# Altium footprint library rcl.PCBLIB: 487 footprints (part 24 of 31)
Each footprint in its own frame and in the unit in brackets; x right, y up, seen from the top. Pads: shape width x height; smd on the part's side, far side on the other; paste and mask are expansions set on the pad; w line width, h text height; cw(c..) or ccw(c..) is an arc to the next point about the centre after c.
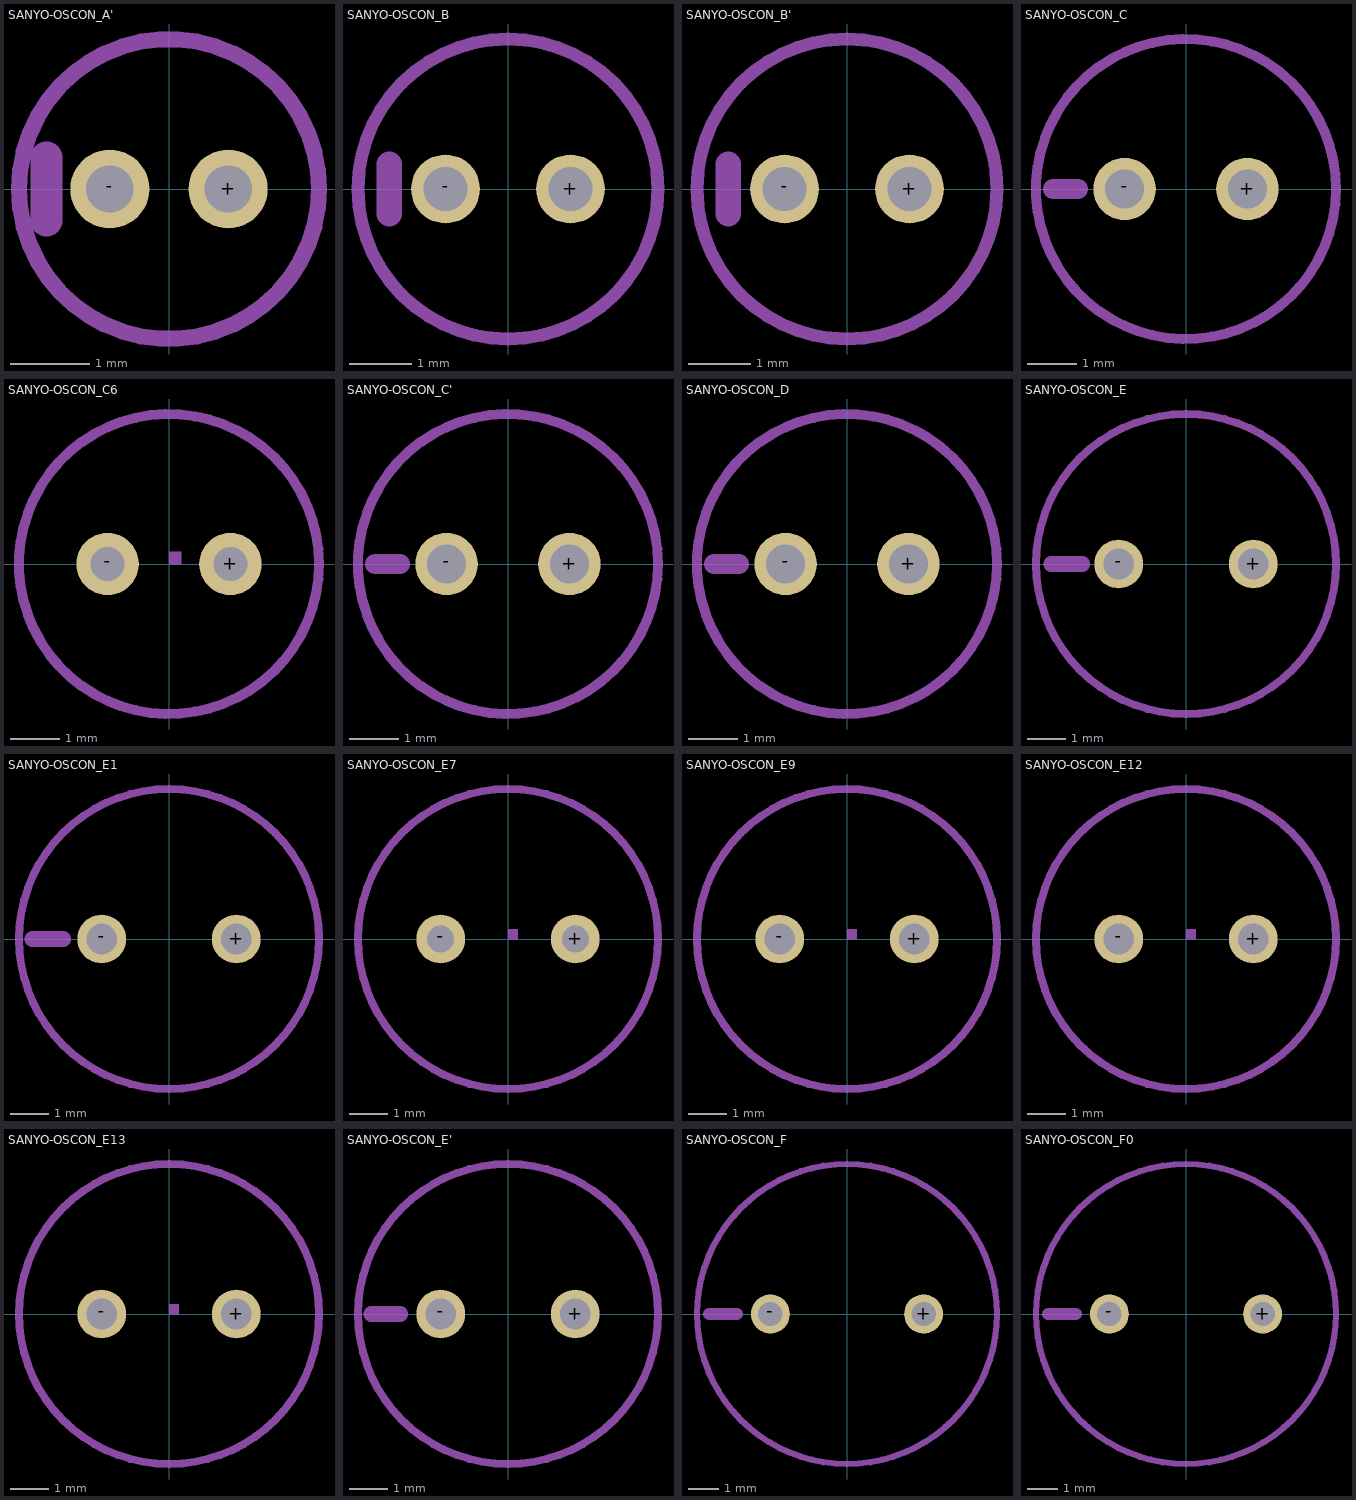
[diagram p23: the footprints below, top view; thin cyan lines are the x and y axes]

## SANYO-OSCON_A' [mm]
pads (2):
  round 1 hole 0.6: +(0.75,0) -(-0.75,0)
Mechanical 2:
  circle w0.203: c0,0 r1.9
Mechanical 18:
  lines w0.406: -1.55,-0.4 -1.55,0.4

## SANYO-OSCON_B [mm]
pads (2):
  round 1.1 hole 0.7: +(1,0) -(-1,0)
Mechanical 2:
  circle w0.203: c0,0 r2.4
  lines w0.406: -1.9,-0.4 -1.9,0.4

## SANYO-OSCON_B' [mm]
pads (2):
  round 1.1 hole 0.7: +(1,0) -(-1,0)
Mechanical 2:
  circle w0.203: c0,0 r2.4
  lines w0.406: -1.9,-0.4 -1.9,0.4

## SANYO-OSCON_C [mil]
pads (2):
  round 50 hole 31.5: +(49.21,0) -(-49.21,0)
Mechanical 2:
  circle w8: c0,0 r120.08
  lines w16: -106.3,0 -86.61,0

## SANYO-OSCON_C6 [mil]
pads (2):
  round 50 hole 27.56: +(49.21,0) -(-49.21,0)
Mechanical 2:
  circle w8: c0,0 r120.08
  region: 0,0 10,0 10,10 0,10

## SANYO-OSCON_C' [mil]
pads (2):
  round 50 hole 31.5: +(49.21,0) -(-49.21,0)
Mechanical 2:
  circle w8: c0,0 r120.09
  lines w16: -106.3,0 -86.61,0

## SANYO-OSCON_D [mil]
pads (2):
  round 50 hole 31.5: +(49.21,0) -(-49.21,0)
Mechanical 2:
  circle w8: c0,0 r120.08
  lines w16: -106.3,0 -86.61,0

## SANYO-OSCON_E [mil]
pads (2):
  round 50 hole 31.5: +(68.9,0) -(-68.9,0)
Mechanical 2:
  circle w8: c0,0 r153.56
  lines w16: -137.8,0 -106.3,0

## SANYO-OSCON_E1 [mil]
pads (2):
  round 50 hole 31.5: +(68.9,0) -(-68.9,0)
Mechanical 2:
  circle w8: c0,0 r153.54
  lines w16: -139.76,0 -108.27,0

## SANYO-OSCON_E7 [mil]
pads (2):
  round 50 hole 27.56: +(68.9,0) -(-68.9,0)
Mechanical 2:
  circle w8: c0,0 r153.54
  region: 0,0 10,0 10,10 0,10

## SANYO-OSCON_E9 [mil]
pads (2):
  round 50 hole 31.5: +(68.9,0) -(-68.9,0)
Mechanical 2:
  circle w8: c0,0 r153.54
  region: 0,0 10,0 10,10 0,10

## SANYO-OSCON_E12 [mil]
pads (2):
  round 50 hole 31.5: +(68.9,0) -(-68.9,0)
Mechanical 2:
  circle w8: c0,0 r153.54
  region: 0,0 10,0 10,10 0,10

## SANYO-OSCON_E13 [mil]
pads (2):
  round 50 hole 31.5: +(68.9,0) -(-68.9,0)
Mechanical 2:
  circle w8: c0,0 r153.54
  region: 0,0 10,0 10,10 0,10

## SANYO-OSCON_E' [mil]
pads (2):
  round 50 hole 31.5: +(68.9,0) -(-68.9,0)
Mechanical 2:
  circle w8: c0,0 r153.54
  lines w16: -139.76,0 -110.24,0

## SANYO-OSCON_F [mil]
pads (2):
  round 50 hole 31.5: +(98.43,0) -(-98.43,0)
Mechanical 2:
  circle w8: c0,0 r192.91
  lines w16: -177.17,0 -141.73,0

## SANYO-OSCON_F0 [mil]
pads (2):
  round 50 hole 31.5: +(98.43,0) -(-98.43,0)
Mechanical 2:
  circle w8: c0,0 r192.91
  lines w16: -177.17,0 -141.73,0